# Altium footprint library TO-220-7C.PcbLib: 1 footprints
Each footprint in its own frame and in the unit in brackets; x right, y up, seen from the top. Pads: shape width x height; smd on the part's side, far side on the other; paste and mask are expansions set on the pad; w line width, h text height; cw(c..) or ccw(c..) is an arc to the next point about the centre after c.
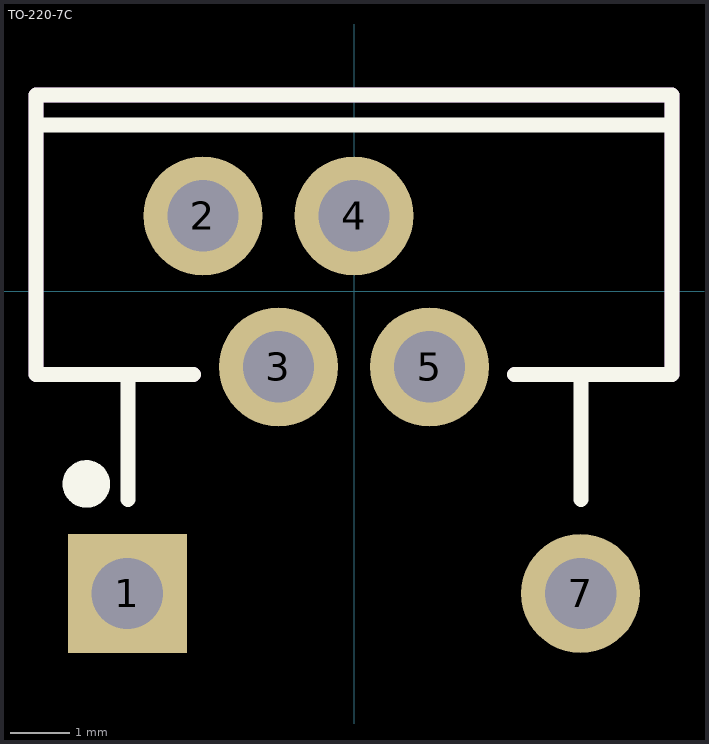
[diagram p0: the footprint, top view; thin cyan lines are the x and y axes]

## TO-220-7C [mm]
pads (6):
  rect 2x2 hole 1.2: 1(-3.81,-5.08)
  round 2 hole 1.2: 2(-2.54,1.27) 3(-1.27,-1.27) 4(0,1.27) 5(1.27,-1.27) 7(3.81,-5.08)
Top Overlay:
  circle w0.4: c-4.5,-3.239 r0.2
  lines w0.254: -3.8,-3.5 -3.8,-1.4 ; -2.7,-1.4 -5.35,-1.4 -5.35,3.3 ; 2.7,-1.4 5.35,-1.4 5.35,3.3 ; 3.82,-3.5 3.82,-1.4 ; -5.35,2.8 -5.35,3.3 ; -5.35,2.8 5.35,2.8 ; -5.35,2.8 -5.35,3.3 ; -5.35,3.3 5.35,3.3 ; 5.35,2.8 5.35,3.3 ; 5.35,2.8 5.35,3.3
Mechanical 13:
  lines w0.254: -2.7,-1.4 -5.35,-1.4 -5.35,3.3 5.35,3.3 5.35,-1.4 2.7,-1.4